# Altium schematic symbol library LTC5584.SchLib: 1 symbol
Pins are listed as number, name and electrical type; pins without a type are passive.

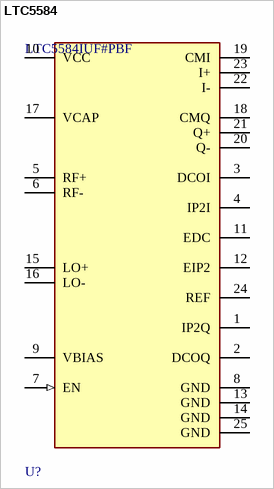
[diagram p0: symbol LTC5584]

## LTC5584
designator U?, comment LTC5584IUF#PBF
RF DEMOD IC 30MHZ-1.4GHZ 24QFN; Min Frequency: 30MHz; Max Frequency: 1.4GHz; Noise Figure: 9.9dB; Min Supply Voltage: 4.75V; Max Supply Voltage: 5.25V; Gain: 5.4dB; RoHS Compliant: Yes; Radiation Hardening: No; Lead Free: Lead Free; Number of Pins: 24; Min Operating Temperature: -40°C; Case/Package: QFN; Packaging: Rail/Tube; Max Operating Temperature: 105°C; Reach SVHC Compliant: Yes; Package Quantity: 91
footprint FP-UF-24-05-08-1697-IPC_B
footprint FP-UF-24-05-08-1697-IPC_A
footprint FP-UF-24-05-08-1697-MFG
footprint FP-UF-24-05-08-1697-IPC_C
pins: 1 IP2Q, 2 DCOQ, 3 DCOI, 4 IP2I, 5 RF+, 6 RF-, 7 EN (in), 8 GND (power), 9 VBIAS (power), 10 VCC (power), 11 EDC, 12 EIP2, 13 GND (power), 14 GND (power), 15 LO+, 16 LO-, 17 VCAP (power), 18 CMQ, 19 CMI, 20 Q-, 21 Q+, 22 I-, 23 I+, 24 REF, 25 GND (power)